# EAGLE library part 6560 (library commodore)
This lib is created by Ruud Baltissen.
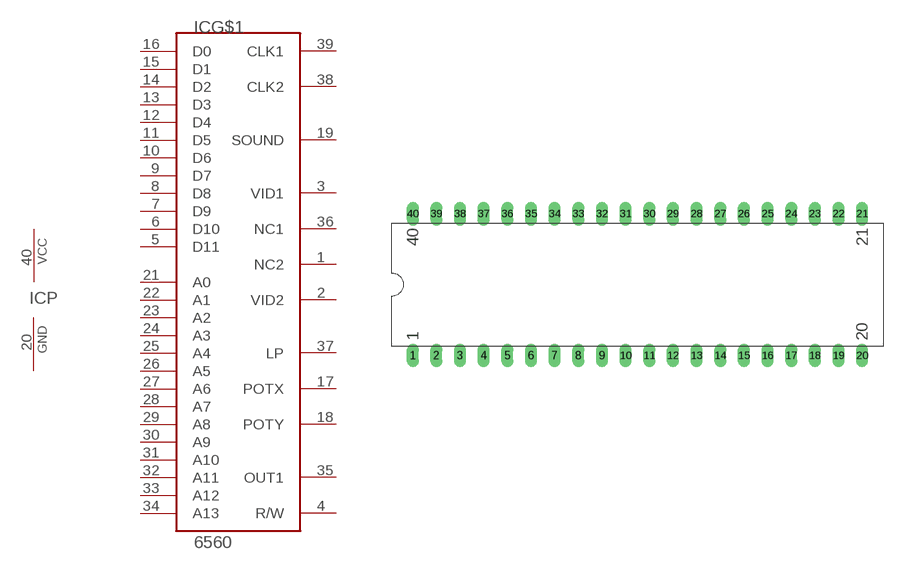
[diagram p21: symbol with the pads of DIP40; footprint DIP40]

Designator prefix IC; gates P=PWRN G$1=6560

## 6560  [DIP40]
1  G$1:NC2  pas
2  G$1:VID2  out
3  G$1:VID1  out
4  G$1:R/W  in
5  G$1:D11  hiz
6  G$1:D10  hiz
7  G$1:D9  hiz
8  G$1:D8  hiz
9  G$1:D7  hiz
10  G$1:D6  hiz
11  G$1:D5  hiz
12  G$1:D4  hiz
13  G$1:D3  hiz
14  G$1:D2  hiz
15  G$1:D1  hiz
16  G$1:D0  hiz
17  G$1:POTX  in
18  G$1:POTY  in
19  G$1:SOUND  out
20  P:GND  pwr
21  G$1:A0
22  G$1:A1
23  G$1:A2
24  G$1:A3
25  G$1:A4
26  G$1:A5
27  G$1:A6
28  G$1:A7
29  G$1:A8
30  G$1:A9
31  G$1:A10
32  G$1:A11
33  G$1:A12
34  G$1:A13
35  G$1:OUT1  out
36  G$1:NC1  pas
37  G$1:LP  in
38  G$1:CLK2  in
39  G$1:CLK1  in
40  P:VCC  pwr

## Footprint DIP40 (pad centres in mm)
drill 0.61 pad 1.27 long: 1 -24.13,-7.62; 2 -21.59,-7.62; 3 -19.05,-7.62; 4 -16.51,-7.62; 5 -13.97,-7.62; 6 -11.43,-7.62; 7 -8.89,-7.62; 8 -6.35,-7.62; 9 -3.81,-7.62; 10 -1.27,-7.62; 11 1.27,-7.62; 12 3.81,-7.62; 13 6.35,-7.62; 14 8.89,-7.62; 15 11.43,-7.62; 16 13.97,-7.62; 17 16.51,-7.62; 18 19.05,-7.62; 19 21.59,-7.62; 20 24.13,-7.62; 21 24.13,7.62; 22 21.59,7.62; 23 19.05,7.62; 24 16.51,7.62; 25 13.97,7.62; 26 11.43,7.62; 27 8.89,7.62; 28 6.35,7.62; 29 3.81,7.62; 30 1.27,7.62; 31 -1.27,7.62; 32 -3.81,7.62; 33 -6.35,7.62; 34 -8.89,7.62; 35 -11.43,7.62; 36 -13.97,7.62; 37 -16.51,7.62; 38 -19.05,7.62; 39 -21.59,7.62; 40 -24.13,7.62